# EAGLE library part ADUM3221BRZ (library IntegratedLib)
Gate driver dual-channel isolado (SOIC-8)
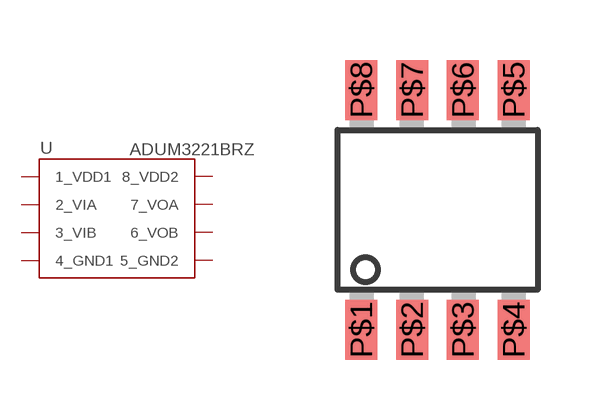
[diagram p10: symbol with the pads of SOIC-8; footprint SOIC-8]

Designator prefix U

## ADUM3221BRZ (FABRICANTE: ANALOG DEVICES; PARTNUMBER: ADUM3221; TIPO: CIRCUITO INTEGRADO)  [SOIC-8]
P$1  1_VDD1
P$2  2_VIA
P$3  3_VIB
P$4  4_GND1
P$5  5_GND2
P$6  6_VOB
P$7  7_VOA
P$8  8_VDD2

## Footprint SOIC-8 (pad centres in mm)
smd 0.8 x 1.5: P$1 -1.905,-3; P$2 -0.635,-3; P$3 0.635,-3; P$4 1.905,-3; P$5 1.905,3; P$6 0.635,3; P$7 -0.635,3; P$8 -1.905,3